# EAGLE library part LM8272 (library wheat)
Opamp, LM8272, MSOP8
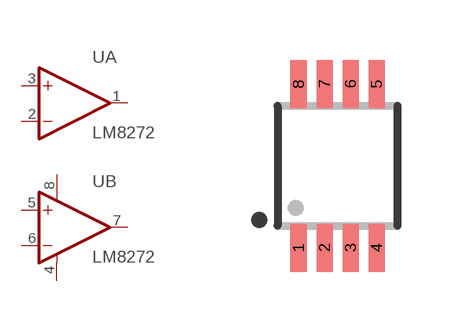
[diagram p105: symbol with the pads of MSOP8; footprint MSOP8]

Designator prefix U; gates A=OPAMP B=OPAMP_V

## LM8272MM  [MSOP8]
1  A:OUT  out
2  A:-IN  in
3  A:+IN  in
4  B:V-  pwr
5  B:+IN  in
6  B:-IN  in
7  B:OUT  out
8  B:V+  pwr

## Footprint MSOP8 (pad centres in mm)
MSOP8
smd 0.4 x 1.2: 1 0.295,-2.05; 2 0.945,-2.05; 3 1.595,-2.05; 4 2.245,-2.05; 5 2.245,2.05; 6 1.595,2.05; 7 0.945,2.05; 8 0.295,2.05